# Altium footprint library PT_6PIN_3.5mm.PcbLib: 1 footprints
Each footprint in its own frame and in the unit in brackets; x right, y up, seen from the top. Pads: shape width x height; smd on the part's side, far side on the other; paste and mask are expansions set on the pad; w line width, h text height; cw(c..) or ccw(c..) is an arc to the next point about the centre after c.
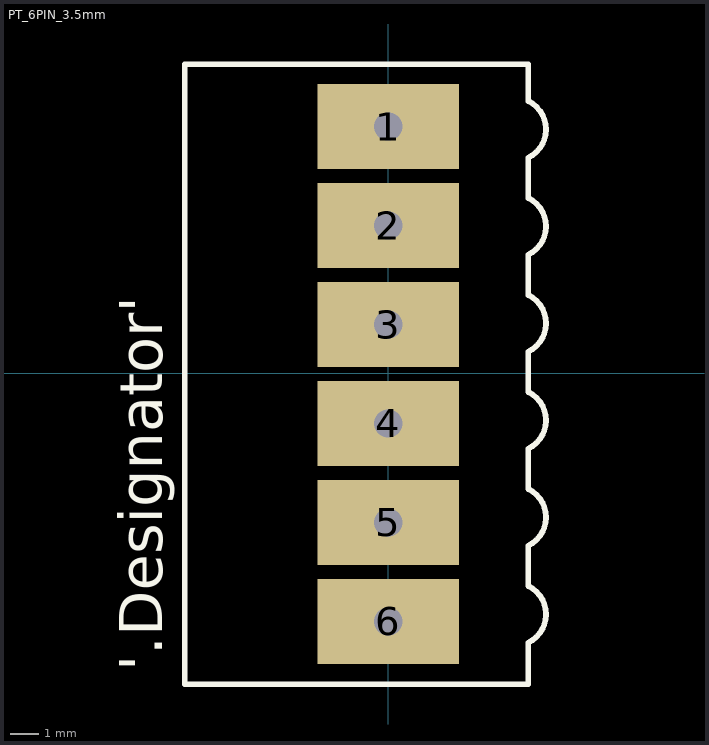
[diagram p0: the footprint, top view; thin cyan lines are the x and y axes]

## PT_6PIN_3.5mm [mm]
pads (6):
  rect 5x3 hole 1: 1(0,8.722) 2(0,5.222) 3(0,1.722) 4(0,-1.778) 5(0,-5.278) 6(0,-8.778)
Top Overlay:
  lines w0.2: 4.953,-7.525 cw(c4.459,-8.525) 4.953,-9.525 4.953,-11 -7.2,-11 -7.2,10.922 4.826,10.922 4.953,10.922 4.953,10.033 4.953,9.62 cw(c4.459,8.62) 4.953,7.62 4.953,6.223 ; 4.953,-7.493 4.953,-6.096 ccw(c4.459,-5.096) 4.953,-4.096 ; 4.953,-4.064 4.953,-2.667 ccw(c4.459,-1.667) 4.953,-0.667 ; 4.953,-0.635 4.953,0.762 ccw(c4.459,1.762) 4.953,2.762 ; 4.953,2.794 4.953,4.191 ccw(c4.459,5.191) 4.953,6.191
  text "'.Designator'" at -8.001,-10.541 h1.52
3D body "PT_6_PIn_3.5.x_t": height 14.05, standoff -3.2, extent -7.016,-10.541 4.984,10.459